# Altium integrated library mosfet_BSS138.IntLib: 1 symbol
Pins are listed as number, name and electrical type; pins without a type are passive.

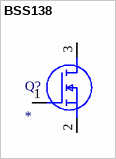
[diagram p0: symbol BSS138]

## BSS138
designator Q?
MOSFET (N-Channel); Manufacturer_Name: ON Semiconductor; Manufacturer_Part_Number: BSS138; Datasheet Link: https://componentsearchengine.com//BSS138.pdf; Height: 1.2mm; Mouser2 Part Number: 512-BSS138; Mouser2 Price/Stock: https://www.mouser.com/Search/Refine.aspx?Keyword=512-BSS138
footprint SOT95P240X120-3N
pins: 1 G, 2 S, 3 D